# Altium footprint library Connector.PcbLib: 21 footprints (part 2 of 2)
Each footprint in its own frame and in the unit in brackets; x right, y up, seen from the top. Pads: shape width x height; smd on the part's side, far side on the other; paste and mask are expansions set on the pad; w line width, h text height; cw(c..) or ccw(c..) is an arc to the next point about the centre after c.
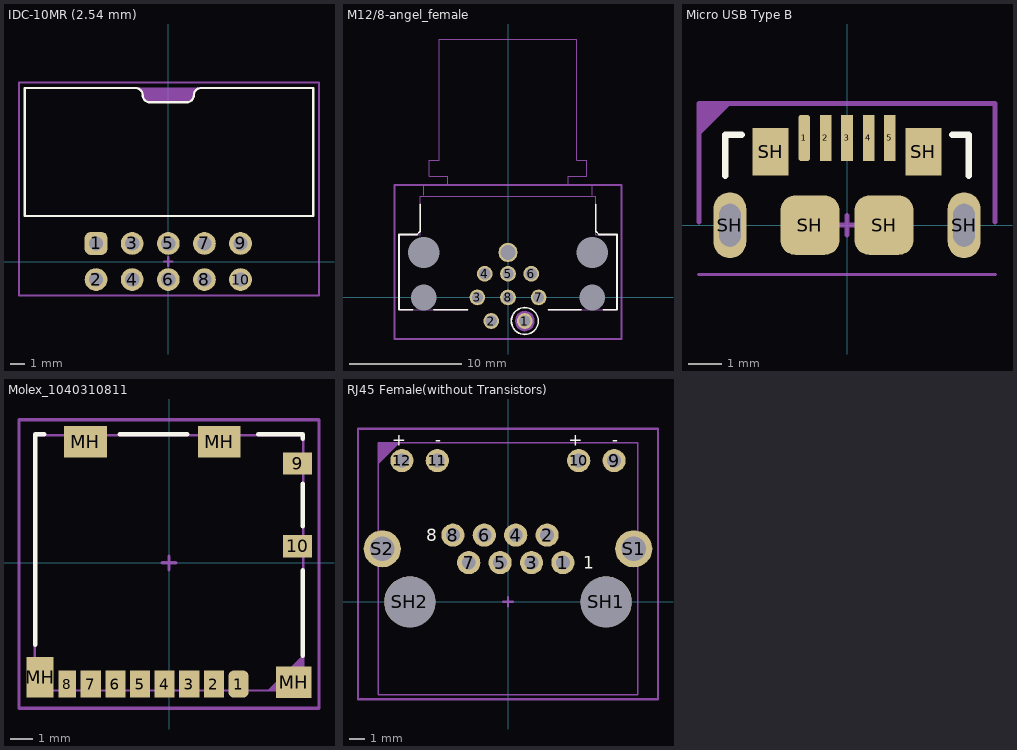
[diagram p1: the footprints below, top view; thin cyan lines are the x and y axes]

## IDC-10MR (2.54 mm) [mm]
pads (10):
  rrect50% 1.6x1.6 hole 1: 1(-5.08,1.27)
  round 1.6 hole 1: 2(-5.08,-1.27) 3(-2.54,1.27) 4(-2.54,-1.27) 5(0,1.27) 6(0,-1.27) 7(2.54,1.27) 8(2.54,-1.27) 9(5.08,1.27) 10(5.08,-1.27)
Top Overlay:
  lines w0.153: -10.1,3.2 -10.1,12.2 -2.3,12.2 cw(c-2.3,11.7) -1.8,11.7 ccw(c-1.3,11.7) -1.3,11.2 1.3,11.2 ccw(c1.3,11.7) 1.8,11.7 cw(c2.3,11.7) 2.3,12.2 10.2,12.2 10.2,3.2 -10.1,3.2
Mechanical 1:
  lines w0.153: -10.5,12.6 10.6,12.6
  text "PCB EDGE" at 3.116,12.4 h0.8
Top Assembly:
  region: -2.3,12.2 -2.202,12.19 -2.022,12.116 -1.884,11.978 -1.81,11.798 -1.8,11.7 -1.8,11.601 -1.724,11.417 -1.583,11.276 -1.399,11.2 -1.3,11.2 1.3,11.2 1.399,11.2 1.583,11.276 1.724,11.417 1.8,11.601 1.8,11.7 1.81,11.798 1.884,11.978 2.022,12.116 2.202,12.19 2.3,12.2
  lines w0.1: -2.3,12.2 cw(c-2.3,11.7) -1.8,11.7 ccw(c-1.3,11.7) -1.3,11.2 1.3,11.2 ccw(c1.3,11.7) 1.8,11.7 cw(c2.3,11.7) 2.3,12.2 ; -2.3,12.2 2.3,12.2 ; -2.3,12.2 -10.1,12.2 -10.1,3.2 10.2,3.2 10.2,12.2 2.3,12.2
  text "'.Designator'" at -4.532,6.367 h0.8
Top Courtyard:
  lines w0.153: -0.3,0 0.3,0 ; 0,-0.3 0,0.3 ; -10.5,-2.4 10.6,-2.4 10.6,12.6 -10.5,12.6 -10.5,-2.4
3D body "User Library-BH10R-1.STEP": height 9.35, standoff -2.4, extent -10.171,-1.602 10.229,12.278

## M12/8-angel_female [mm]
pads (13):
  round 1.4 hole 1: 1(1.5,-2.1) 2(-1.5,-2.1) 3(-2.725,0) 4(-2.075,2.1) 5(0,2.1) 6(2.075,2.1) 7(2.725,0) 8(0,0)
  round 1.4 hole 2.3 unplated: Shell(-7.5,0) Shell(7.5,0)
  round 1.4 hole 2.8 unplated: Shell(-7.5,4) Shell(7.5,4)
  round 1.7 hole 1.3: Shell(0,4)
Top Overlay:
  circle w0.153: c1.5,-2.1 r1.2
  lines w0.153: -8.5,-1.1 -9.7,-1.1 -9.7,5.6 -8.1,5.6 -7.8,5.9 -7.8,8.3 ; -6.6,-1.1 -3.6,-1.1 ; 3.6,-1.1 6.5,-1.1 ; 7.8,8.3 7.8,5.9 8.1,5.6 9.7,5.6 9.7,-1.1 8.5,-1.1
Mechanical 1:
  lines w0.1: -9.7,10 9.7,10
  text "PCB EDGE" at -2.966,9 h0.8
Top Assembly:
  circle w0.1: c1.5,-2.1 r0.854
  region: 0.646,-2.1 0.646,-2.184 0.678,-2.349 0.743,-2.505 0.836,-2.645 0.955,-2.764 1.095,-2.857 1.251,-2.922 1.416,-2.954 1.5,-2.954 1.584,-2.954 1.749,-2.922 1.905,-2.857 2.045,-2.764 2.164,-2.645 2.257,-2.505 2.322,-2.349 2.354,-2.184 2.354,-2.1 2.354,-2.016 2.322,-1.851 2.257,-1.695 2.164,-1.555 2.045,-1.436 1.905,-1.343 1.749,-1.278 1.584,-1.246 1.5,-1.246 1.416,-1.246 1.251,-1.278 1.095,-1.343 0.955,-1.436 0.836,-1.555 0.743,-1.695 0.678,-1.851 0.646,-2.016
  lines w0.1: -7.5,9.1 -7.5,10 -7,10 7,10 7.5,10 7.5,9.1 ; -5.38,10 -5.38,10.8 -7,10.8 -7,12.2 -6.1,12.2 -6.1,23 6.1,23 6.1,12.2 7,12.2 7,10.8 5.38,10.8 5.38,10 ; -3.6,-1.1 -9.7,-1.1 -9.7,5.6 -7.8,5.6 -7.8,9 7.8,9 7.8,5.6 9.7,5.6 9.7,-1.1 3.6,-1.1
  text ".Designator" at -3.847,1.52 h0.8
Top Courtyard:
  lines w0.153: -0.3,0 0.3,0 ; 0,-0.3 0,0.3 ; -10.1,-3.7 10.1,-3.7 10.1,10 -10.1,10 -10.1,-3.7
3D body "54-00248.STEP": height 16, standoff -3.5, extent -9.75,-2.4 9.75,23

## Micro USB Type B [mm]
pads (11):
  rrect50% 0.35x1.4 smd: 1(-1.3,2.65)
  rect 0.35x1.4 smd: 2(-0.65,2.65) 3(0,2.65) 4(0.66,2.65) 5(1.3,2.65)
  oval 1x2 hole 0.65 slot 1.3 at 90 deg: SH(-3.556,0) SH(3.556,0)
  rect 1.1x1.45 smd: SH(-2.32,2.23) SH(2.32,2.23)
  rrect50% 1.8x1.8 smd: SH(-1.125,0) SH(1.125,0)
Top Overlay:
  lines w0.2: -3.7,1.5 -3.7,2.75 -3.2,2.75 ; 3.2,2.75 3.7,2.75 3.7,1.5
Mechanical 1:
  lines w0.1: -4.5,-1.5 4.5,-1.5
  text "PCB EDGE" at -2.866,-1.3 h0.8
Top Assembly:
  region: -4.5,3.7 -4.5,2.7 -3.5,3.7
  lines w0.1: -4.5,0.1 -4.5,3.7 4.5,3.7 4.5,0.1
  text "'.Designator'" at -4.532,-0.333 h0.8
Top Courtyard:
  lines w0.153: -4.5,0.1 -4.5,3.7 4.5,3.7 4.5,0.1 ; -0.3,0 0.3,0 ; 0,-0.3 0,0.3
3D body "USB3076-30-A--3DModel-STEP-56544.STEP": height 2.67, standoff -0.99, extent -3.7,-2.775 3.7,2.775

## Molex_1040310811 [mm]
pads (14):
  rrect50% 0.9x1.2 smd: 1(3.105,-5.412)
  rect 0.9x1.2 smd: 2(2.005,-5.412) 3(0.905,-5.412) 4(-0.195,-5.412) 5(-1.295,-5.412) 6(-2.395,-5.412) 7(-3.495,-5.412)
  rect 0.8x1.2 smd: 8(-4.545,-5.412)
  rect 1.3x1 smd: 9(5.74,4.437) 10(5.74,0.738)
  rect 1.2x1.8 smd: MH(-5.755,-5.112)
  rect 1.9x1.4 smd: MH(-3.73,5.413) MH(2.24,5.413)
  rect 1.6x1.4 smd: MH(5.573,-5.337)
Top Overlay:
  lines w0.2: -5.967,-3.662 -5.967,5.737 -5.567,5.737 ; -2.193,5.737 0.808,5.737 ; 3.983,5.737 5.983,5.737 5.983,5.537 ; 5.983,-4.137 5.983,-0.337 ; 5.983,1.637 5.983,3.538
Top Assembly:
  region: 6,-5.7 4.4,-5.7 6,-4.1
  lines w0.1: -6,-5.7 6,-5.7 6,5.7 -6,5.7 -6,-5.7
  text ".Designator" at -3.999,-0.267 h0.8
Top Courtyard:
  lines w0.153: -0.3,0 0.3,0 ; 0,-0.3 0,0.3 ; -6.7,-6.5 6.7,-6.5 6.7,6.4 -6.7,6.4 -6.7,-6.5
3D body "1040310811.step": height 1.41, standoff -0.04, extent -5.975,-5.7 5.975,5.7

## RJ45 Female(without Transistors) [mm]
pads (16):
  round 1.5 hole 0.9: 1(3.55,2.54) 2(2.53,4.32) 3(1.52,2.54) 4(0.5,4.32) 5(-0.51,2.54) 6(-1.53,4.32) 7(-2.54,2.54) 8(-3.56,4.32) 9(6.86,9.14) 10(4.57,9.14) 11(-4.57,9.14) 12(-6.86,9.14)
  round 2.4 hole 1.6: S1(8.13,3.43) S2(-8.13,3.43)
  round 3.3 hole 3.3 unplated: SH1(6.35,0) SH2(-6.35,0)
Top Overlay:
  text "-" at -4.303,10.1 h0.8
  text "+" at -6.593,10.1 h0.8
  text "-" at 7.127,10.1 h0.8
  text "+" at 4.837,10.1 h0.8
  text "1" at 4.867,2.14 h0.8
  text "8" at -5.277,3.92 h0.8
Mechanical 1:
  lines w0.1: -8.4,-6.3 8.4,-6.3
  text "PCB EDGE" at -3.066,-6.1 h0.8
Top Assembly:
  region: -8.4,10.3 -8.4,8.9 -7,10.3
  lines w0.1: -8.4,-6 -8.4,10.3 8.4,10.3 8.4,-6 -8.4,-6
  text "'.Designator'" at -4.532,-0.333 h0.8
Top Courtyard:
  lines w0.153: -0.3,0 0.3,0 ; 0,-0.3 0,0.3 ; -9.7,-6.3 -9.7,11.2 9.7,11.2 9.7,-6.3 -9.7,-6.3
3D body "RJHSE-5381--3DModel-STEP-56544.STEP": height 15.98, standoff -3.68, extent -8.382,-5.969 8.382,10.287